# EAGLE library part ELECTRODE-IFACE (library UsefulConnectors)
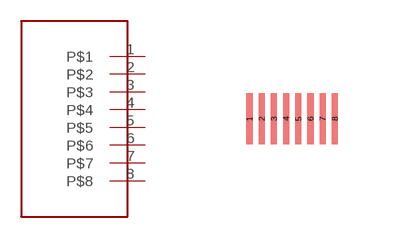
[diagram p6: symbol with the pads of ELECTRODE_IFACE; footprint ELECTRODE_IFACE]

Designator prefix -

## ELECTRODE-IFACE  [ELECTRODE_IFACE]
1  P$1
2  P$2
3  P$3
4  P$4
5  P$5
6  P$6
7  P$7
8  P$8

## Footprint ELECTRODE_IFACE (pad centres in mm)
smd 0.152 x 1.27: 1 -1.067,0; 2 -0.762,0; 3 -0.457,0; 4 -0.152,0; 5 0.152,0; 6 0.457,0; 7 0.762,0; 8 1.067,0